# EAGLE library part CPU (library TinyNES_Library)
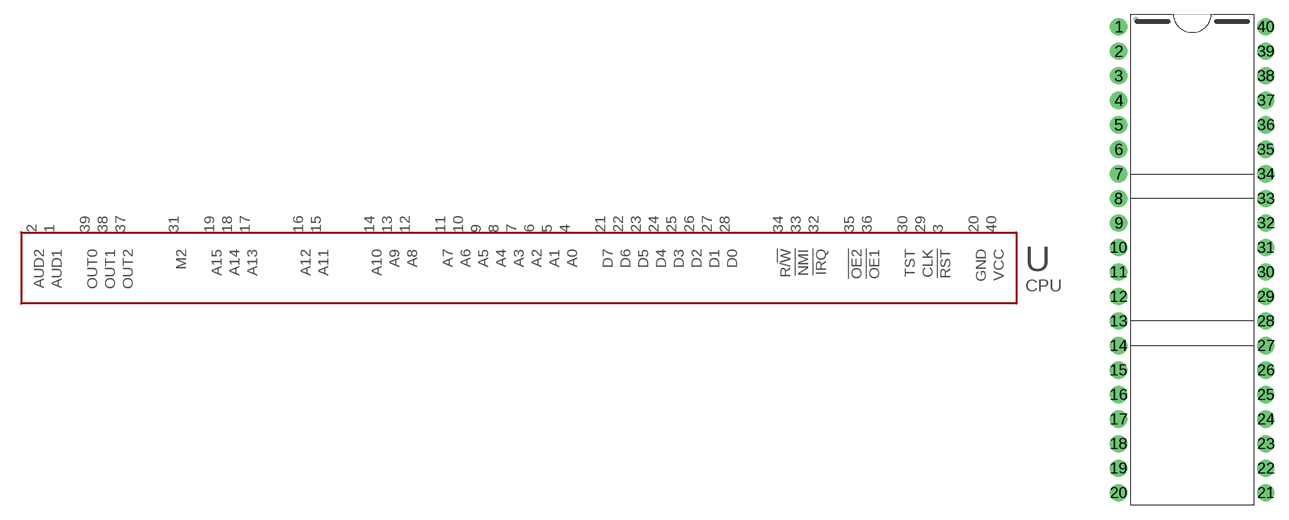
[diagram p6: symbol with the pads of DIP-40; footprint DIP-40]

Designator prefix U

## CPU  [DIP-40]
1  AUD1
2  AUD2
3  !RST
4  A0
5  A1
6  A2
7  A3
8  A4
9  A5
10  A6
11  A7
12  A8
13  A9
14  A10
15  A11
16  A12
17  A13
18  A14
19  A15
20  GND
21  D7
22  D6
23  D5
24  D4
25  D3
26  D2
27  D1
28  D0
29  CLK
30  TST
31  M2
32  !IRQ
33  !NMI
34  R/!W
35  !OE2
36  !OE1
37  OUT2
38  OUT1
39  OUT0
40  VCC

## Footprint DIP-40 (pad centres in mm)
drill 1.016 pad 1.778: 1 -7.62,24.13; 2 -7.62,21.59; 3 -7.62,19.05; 4 -7.62,16.51; 5 -7.62,13.97; 6 -7.62,11.43; 7 -7.62,8.89; 8 -7.62,6.35; 9 -7.62,3.81; 10 -7.62,1.27; 11 -7.62,-1.27; 12 -7.62,-3.81; 13 -7.62,-6.35; 14 -7.62,-8.89; 15 -7.62,-11.43; 16 -7.62,-13.97; 17 -7.62,-16.51; 18 -7.62,-19.05; 19 -7.62,-21.59; 20 -7.62,-24.13; 21 7.62,-24.13; 22 7.62,-21.59; 23 7.62,-19.05; 24 7.62,-16.51; 25 7.62,-13.97; 26 7.62,-11.43; 27 7.62,-8.89; 28 7.62,-6.35; 29 7.62,-3.81; 30 7.62,-1.27; 31 7.62,1.27; 32 7.62,3.81; 33 7.62,6.35; 34 7.62,8.89; 35 7.62,11.43; 36 7.62,13.97; 37 7.62,16.51; 38 7.62,19.05; 39 7.62,21.59; 40 7.62,24.13